# Altium footprint library Robsense_PCBLib.PcbLib: 82 footprints (part 4 of 6)
Each footprint in its own frame and in the unit in brackets; x right, y up, seen from the top. Pads: shape width x height; smd on the part's side, far side on the other; paste and mask are expansions set on the pad; w line width, h text height; cw(c..) or ccw(c..) is an arc to the next point about the centre after c.
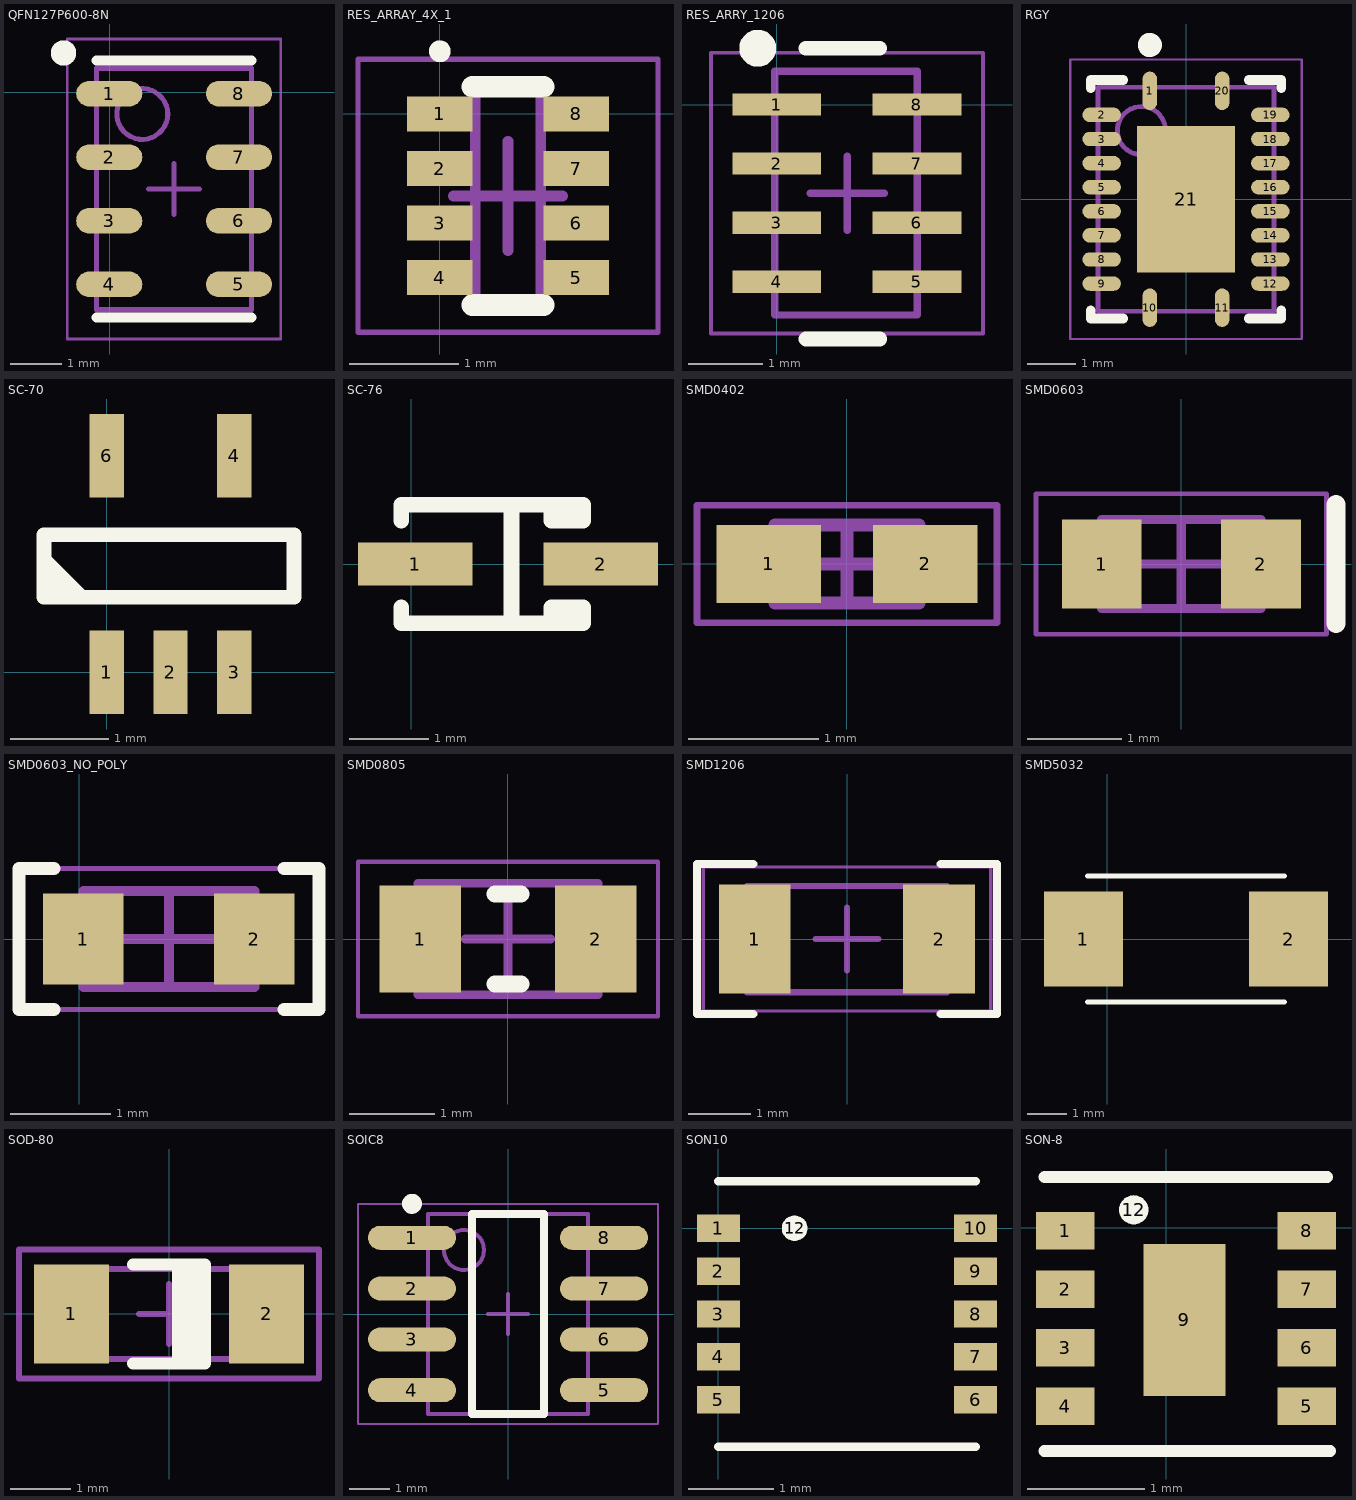
[diagram p3: the footprints below, top view; thin cyan lines are the x and y axes]

## QFN127P600-8N [mm]
height 1
pads (8):
  oval 1.3x0.5 smd mask+0.08: 1(-0.005,-0.03) 2(-0.005,-1.28) 3(-0.005,-2.53) 4(-0.005,-3.78) 5(2.545,-3.78) 6(2.545,-2.53) 7(2.545,-1.28) 8(2.545,-0.03)
Top Overlay:
  circle w0.25: c-0.905,0.77 r0.125
  lines w0.2: -0.255,-4.43 1.395,-4.43 ; -0.255,0.62 1.395,0.62 ; 1.145,-4.43 2.795,-4.43 ; 1.145,0.62 2.795,0.62
Mechanical 13:
  circle w0.1: c0.645,-0.43 r0.5
  lines w0.1: -0.255,-4.28 2.795,-4.28 2.795,0.47 -0.255,0.47 -0.255,-4.28
Mechanical 15:
  lines w0.05: -0.83,-4.855 3.37,-4.855 3.37,1.045 -0.83,1.045 -0.83,-4.855
  lines w0.1: 0.77,-1.905 1.77,-1.905 ; 1.27,-2.405 1.27,-1.405
3D body: height 1, standoff 0.05, extent -0.255,-4.28 2.795,0.47

## RES_ARRAY_4X_1 [mm] "SOJ, 8-Leads, Body 2.00x1.00mm, Pitch 0.50mm, IPC Low Density"
height 0.45
pads (8):
  rect 0.6x0.32 smd mask+0.08: 1(0,0) 2(0,-0.5) 3(0,-1) 4(0,-1.5) 5(1.25,-1.5) 6(1.25,-1) 7(1.25,-0.5) 8(1.25,0)
Top Overlay:
  circle w0.1: c0,0.575 r0.05
  lines w0.2: 0.3,-1.75 0.95,-1.75 ; 0.3,0.25 0.95,0.25
Mechanical 13:
  lines w0.1: 0.325,-1.75 0.925,-1.75 0.925,0.25 0.325,0.25 0.325,-1.75
Mechanical 15:
  lines w0.05: -0.75,-2 2,-2 2,0.5 -0.75,0.5 -0.75,-2
  lines w0.1: 0.125,-0.75 1.125,-0.75 ; 0.625,-1.25 0.625,-0.25
3D body: height 0.45, standoff 0.05, extent 0.325,-1.75 0.925,0.25

## RES_ARRY_1206 [mm] "TSOP, 8-Leads, Body 3.20x1.10mm, Pitch 0.80mm, IPC Medium Density"
height 0.6
pads (8):
  rect 1.2x0.3 smd mask+0.08: 1(0,0) 2(0,-0.8) 3(0,-1.6) 4(0,-2.4) 5(1.9,-2.4) 6(1.9,-1.6) 7(1.9,-0.8) 8(1.9,0)
Top Overlay:
  circle w0.25: c-0.256,0.762 r0.125
  lines w0.2: 0.397,-3.175 1.397,-3.175 ; 0.397,0.762 1.397,0.762
Mechanical 13:
  lines w0.1: -0.025,-2.85 1.905,-2.85 1.905,0.45 -0.025,0.45 -0.025,-2.85
Mechanical 15:
  lines w0.05: -0.889,-3.1 2.794,-3.1 2.794,0.7 -0.889,0.7 -0.889,-3.1
  lines w0.1: 0.456,-1.2 1.456,-1.2 ; 0.956,-1.7 0.956,-0.7

## RGY [mm] "QFN, 20-Leads, Body 4.50x3.50mm, Pitch 0.50mm/1.50mm, Thermal Pad 3.03x2.03mm, IPC Medium Density"
height 1
pads (21):
  oval 0.3x0.8 smd mask+0.08: 1(-0.75,2.25) 10(-0.75,-2.25) 11(0.75,-2.25) 20(0.75,2.25)
  oval 0.8x0.3 smd mask+0.08: 2(-1.75,1.75) 3(-1.75,1.25) 4(-1.75,0.75) 5(-1.75,0.25) 6(-1.75,-0.25) 7(-1.75,-0.75) 8(-1.75,-1.25) 9(-1.75,-1.75) 12(1.75,-1.75) 13(1.75,-1.25) 14(1.75,-0.75) 15(1.75,-0.25) 16(1.75,0.25) 17(1.75,0.75) 18(1.75,1.25) 19(1.75,1.75)
  rect 2.03x3.03 smd mask+0.08: 21(0,0)
Top Overlay:
  circle w0.25: c-0.75,3.2 r0.125
  lines w0.2: -1.975,-2.3 -1.975,-2.475 -1.3,-2.475 ; -1.975,2.3 -1.975,2.475 -1.3,2.475 ; 1.3,-2.475 1.975,-2.475 1.975,-2.3 ; 1.3,2.475 1.975,2.475 1.975,2.3
Mechanical 13:
  circle w0.1: c-0.925,1.425 r0.5
  lines w0.1: -1.825,-2.325 1.825,-2.325 1.825,2.325 -1.825,2.325 -1.825,-2.325
Mechanical 15:
  lines w0.05: -2.4,-2.9 2.4,-2.9 2.4,2.9 -2.4,2.9 -2.4,-2.9
  lines w0.1: -0.5,0 0.5,0 ; 0,-0.5 0,0.5
3D body: height 1, standoff 0.1, extent -1.825,-2.325 1.825,2.325

## SC-70 [mm]
pads (5):
  rect 0.35x0.85 smd mask+0.08: 1(0,0) 2(0.65,0) 3(1.3,0) 4(1.3,2.2) 6(0,2.2)
Top Overlay:
  lines w0.15: -0.635,1.016 -0.381,0.762 ; -0.635,1.143 -0.254,0.762 ; -0.635,0.762 1.905,0.762 1.905,1.397 -0.635,1.397 -0.635,0.762
3D body: height 1, standoff 0.05, extent -0.635,0.127 1.905,2.032

## SC-76 [mm]
pads (2):
  rect 1.45x0.55 smd mask+0.08: 1(0.049,0) 2(2.399,0)
Top Overlay:
  lines w0.2: -0.127,-0.55 -0.127,-0.75 2.174,-0.75 2.174,-0.55 1.774,-0.55 1.774,-0.75 ; -0.127,0.55 -0.127,0.75 2.174,0.75 2.174,0.55 1.774,0.55 1.774,0.75 ; 1.27,-0.75 1.27,0.75

## SMD0402 [mm] "Chip Capacitor, 2-Leads, Body 1.00x0.50mm, IPC Medium Density"
height 0.33
pads (2):
  rect 0.8x0.6 smd mask+0.08: 1(-0.6,0) 2(0.6,0)
Mechanical 13:
  lines w0.1: -0.55,-0.3 0.55,-0.3 0.55,0.3 -0.55,0.3 -0.55,-0.3
Mechanical 15:
  lines w0.05: -1.15,-0.45 1.15,-0.45 1.15,0.45 -1.15,0.45 -1.15,-0.45
  lines w0.1: -0.3,0 0.3,0 ; 0,-0.3 0,0.3
3D body: height 0.33, standoff 0, extent 0.35,-0.3 0.55,0.3
3D body: height 0.33, standoff 0, extent -0.55,-0.3 -0.35,0.3
3D body: height 0.33, standoff 0, extent -0.35,-0.3 0.35,0.3

## SMD0603 [mm] "Chip Capacitor, 2-Leads, Body 1.60x0.80mm, IPC Medium Density"
height 0.5
pads (2):
  rect 0.85x0.95 smd mask+0.08: 1(-0.85,0) 2(0.85,0)
Top Overlay:
  lines w0.2: 1.651,-0.635 1.651,0.635
Mechanical 13:
  lines w0.1: -0.85,-0.475 0.85,-0.475 0.85,0.475 -0.85,0.475 -0.85,-0.475
Mechanical 15:
  lines w0.05: -1.55,-0.75 1.55,-0.75 1.55,0.75 -1.55,0.75 -1.55,-0.75
  lines w0.1: -0.475,0 0.475,0 ; 0,-0.475 0,0.475
3D body: height 0.5, standoff 0, extent 0.55,-0.475 0.85,0.475
3D body: height 0.5, standoff 0, extent -0.85,-0.475 -0.55,0.475
3D body: height 0.5, standoff 0, extent -0.55,-0.475 0.55,0.475

## SMD0603_NO_POLY [mm]
pads (2):
  rect 0.8x0.9 smd mask+0.08: 1(0.039,0) 2(1.739,0)
Top Overlay:
  lines w0.13: -0.254,-0.7 -0.6,-0.7 -0.6,0.7 -0.254,0.7 ; 2.032,-0.7 2.38,-0.7 2.38,0.7 2.032,0.7
Mechanical 13:
  lines w0.1: 0.039,-0.475 0.039,0.475 1.739,0.475 1.739,-0.475 0.039,-0.475
Mechanical 15:
  lines w0.05: -0.6,-0.7 -0.6,0.7 2.38,0.7 2.38,-0.7 -0.6,-0.7
  lines w0.1: 0.414,0 1.364,0 ; 0.889,-0.475 0.889,0.475
3D body: height 0.5, standoff 0, extent 0.339,-0.475 1.439,0.475
3D body: height 0.5, standoff 0, extent 0.039,-0.475 0.339,0.475
3D body: height 0.5, standoff 0, extent 1.439,-0.475 1.739,0.475

## SMD0805 [mm] "Chip Resistor, 2-Leads, Body 2.00x1.20mm, IPC Medium Density"
height 0.5
pads (2):
  rect 0.95x1.25 smd mask+0.08: 1(-1.025,0) 2(1.025,0)
Top Overlay:
  lines w0.2: -0.15,-0.525 0.15,-0.525 ; -0.15,0.525 0.15,0.525
Mechanical 13:
  lines w0.1: -1.05,-0.65 -1.05,0.65 1.05,0.65 1.05,-0.65 -1.05,-0.65
Mechanical 15:
  lines w0.05: -1.75,-0.9 -1.75,0.9 1.75,0.9 1.75,-0.9 -1.75,-0.9
  lines w0.1: -0.5,0 0.5,0 ; 0,-0.5 0,0.5
3D body: height 0.5, standoff 0, extent -0.65,-0.65 0.65,0.65
3D body: height 0.5, standoff 0, extent -1.05,-0.65 -0.65,0.65
3D body: height 0.5, standoff 0, extent 0.65,-0.65 1.05,0.65

## SMD1206 [mm] "Chip Resistor, 2-Leads, Body 3.10x1.55mm, IPC Medium Density"
height 0.7
pads (2):
  rect 1.15x1.75 smd mask+0.08: 1(-1.475,0) 2(1.475,0)
Top Overlay:
  lines w0.13: -1.5,-1.2 -2.4,-1.2 -2.4,1.2 -1.5,1.2 ; 1.5,-1.2 2.4,-1.2 2.4,1.2 1.5,1.2
Mechanical 13:
  lines w0.1: -1.6,-0.85 1.6,-0.85 1.6,0.85 -1.6,0.85 -1.6,-0.85
Mechanical 15:
  lines w0.05: -2.3,-1.15 2.3,-1.15 2.3,1.15 -2.3,1.15 -2.3,-1.15
  lines w0.1: -0.5,0 0.5,0 ; 0,-0.5 0,0.5
3D body: height 0.7, standoff 0, extent 1.15,-0.85 1.6,0.85
3D body: height 0.7, standoff 0, extent -1.6,-0.85 -1.15,0.85
3D body: height 0.7, standoff 0, extent -1.15,-0.85 1.15,0.85

## SMD5032 [mm]
pads (2):
  rect 2x2.4 smd mask+0.08: 1(-0.6,0) 2(4.6,0)
Top Overlay:
  lines w0.13: -0.5,-1.6 4.5,-1.6 ; -0.5,1.6 4.5,1.6
3D body: height 1, standoff 0.1, extent -0.508,-1.651 4.572,1.651

## SOD-80 [mm] "MELF Diode, 2-Leads, Body 3.5x1.4mm, IPC Medium Density"
height 1.5
pads (2):
  rect 1.25x1.65 smd mask+0.08: 1(-1.625,0) 2(1.625,0)
Top Overlay:
  rectangle: 0.05,-0.825 0.6,0.825
  lines w0.2: -0.6,-0.825 0.6,-0.825 0.6,0.825 -0.6,0.825
Mechanical 13:
  rectangle: 1.352,-0.75 1.85,0.75
  lines w0.1: -1.85,-0.75 -1.85,0.75 1.85,0.75 1.85,-0.75 -1.85,-0.75
Mechanical 15:
  lines w0.1: -0.5,0 0.5,0 ; 0,-0.5 0,0.5 ; -2.5,-1.075 -2.5,1.075 2.5,1.075 2.5,-1.075 -2.5,-1.075
3D body: height 1.5, standoff 0, extent -1.85,-0.75 1.85,0.75

## SOIC8 [mm] "SOIC, 8-Leads, Body 4.90x3.90mm, Pitch 1.27mm, IPC Medium Density"
height 1.5
pads (8):
  oval 2.2x0.6 smd mask+0.08: 1(-2.4,1.905) 2(-2.4,0.635) 3(-2.4,-0.635) 4(-2.4,-1.905) 5(2.4,-1.905) 6(2.4,-0.635) 7(2.4,0.635) 8(2.4,1.905)
Top Overlay:
  circle w0.25: c-2.4,2.755 r0.125
  lines w0.2: -0.9,-2.5 0.9,-2.5 0.9,2.5 -0.9,2.5 -0.9,-2.5
Mechanical 13:
  circle w0.1: c-1.1,1.6 r0.5
  lines w0.1: -2,-2.5 2,-2.5 2,2.5 -2,2.5 -2,-2.5
Mechanical 15:
  lines w0.05: -3.75,-2.75 3.75,-2.75 3.75,2.75 -3.75,2.75 -3.75,-2.75
  lines w0.1: -0.5,0 0.5,0 ; 0,-0.5 0,0.5
3D body: height 1.5, standoff 0.1, extent -2,-2.5 2,2.5

## SON10 [mm]
pads (11):
  rect 0.5x0.32 smd mask+0.08: 1(0,0) 2(0,-0.5) 3(0,-1) 4(0,-1.5) 5(0,-2) 6(3,-2) 7(3,-1.5) 8(3,-1) 9(3,-0.5) 10(3,0)
  round 0.3 on Top Overlay: 12(0.889,0)
Top Overlay:
  lines w0.1: 0,-2.55 3,-2.55 ; 0,0.55 3,0.55
3D body: height 0.8, standoff 0.1, extent 0,-2.54 3.048,0.635

## SON-8 [mm]
pads (10):
  rect 0.5x0.32 smd mask+0.08: 1(-0.864,-0.025) 2(-0.864,-0.525) 3(-0.864,-1.025) 4(-0.864,-1.525) 5(1.196,-1.525) 6(1.196,-1.025) 7(1.196,-0.525) 8(1.196,-0.025)
  rect 0.7x1.3 smd mask+0.08: 9(0.152,-0.787)
  round 0.25 on Top Overlay: 12(-0.279,0.152)
Top Overlay:
  lines w0.1: -1.044,-1.905 1.397,-1.905 ; -1.041,0.432 1.372,0.432
3D body: height 0.8, standoff 0.1, extent -0.838,-1.803 1.219,0.279